# Altium schematic symbol library SIM7600.SchLib: 5 symbols
Pins are listed as number, name and electrical type; pins without a type are passive.

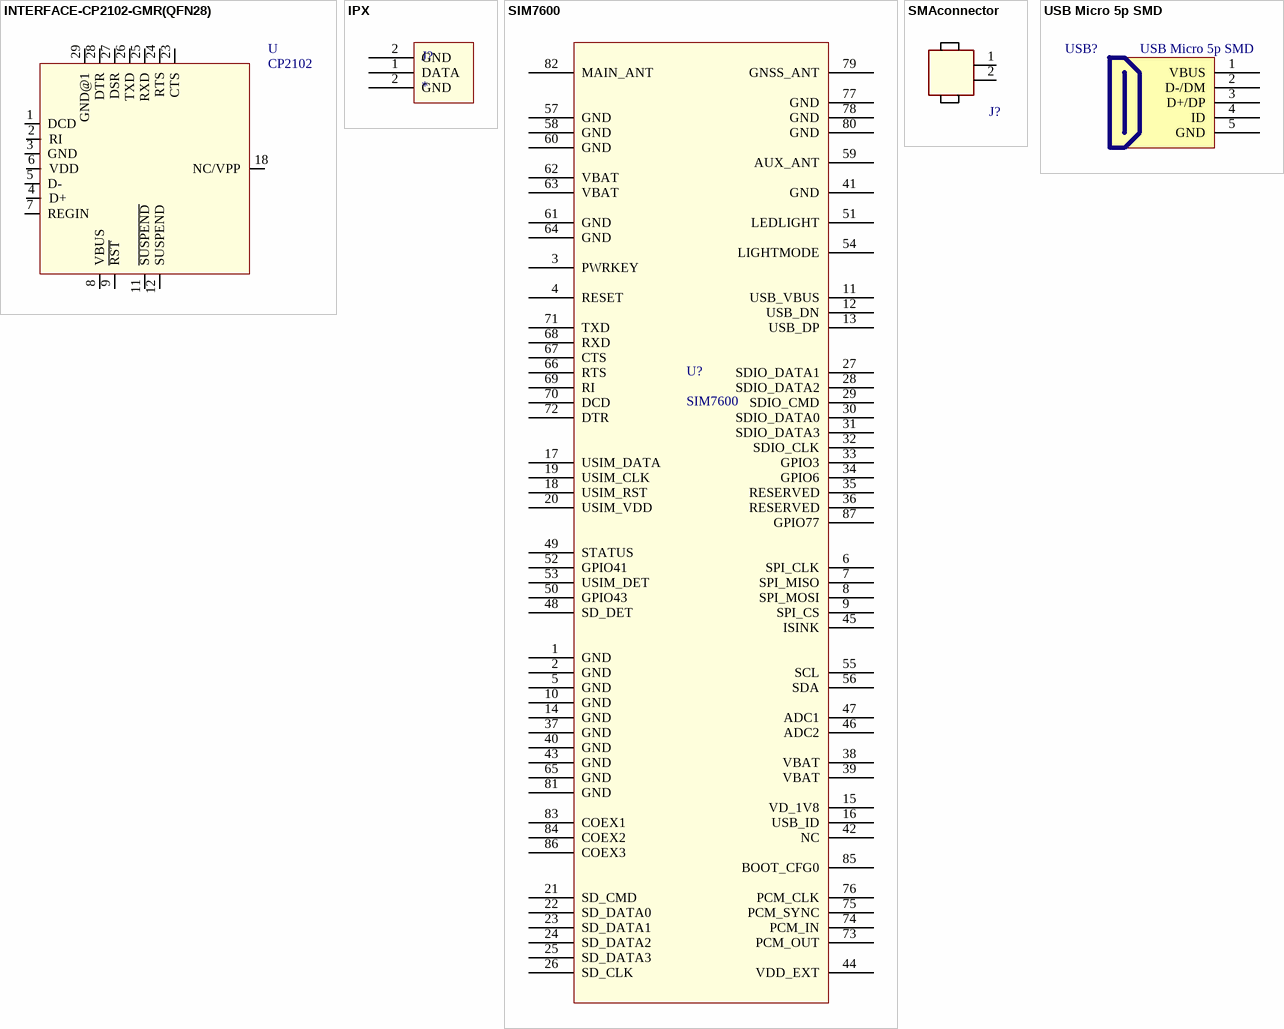
[diagram p0: symbols INTERFACE-CP2102-GMR(QFN28) to USB Micro 5p SMD]

## INTERFACE-CP2102-GMR(QFN28)
designator U, comment CP2102
USB Bridge, USB to UART USB 2.0 UART Interface 28-QFN _5x5_; MP: CP2102-GMR; MF: Silicon; SnapEDA_Link: https://www.snapeda.com/parts/CP2102-GMR/Silicon%20Labs/view-part/570818/?ref=snap; Price: None; Availability: Unavailable; Value: *; Package: VFQFN-28 Vishay Siliconix
footprint QFN28G_0.5-5X5MM
pins: 1 DCD (io), 2 RI (io), 3 GND (io), 4 D+ (io), 5 D- (io), 6 VDD (io), 7 REGIN (io), 8 VBUS (io), 9 ~{RST} (io), 11 ~{SUSPEND} (io), 12 SUSPEND (io), 18 NC/VPP (io), 23 CTS (io), 24 RTS (io), 25 RXD (io), 26 TXD (io), 27 DSR (io), 28 DTR (io), 29 GND@1 (io)

## IPX
designator J?
footprint *SAMTEC_SMA-J-P-H-RA-TH1
pins: 1 DATA, 2 GND, 2 GND

## SIM7600
designator U?
footprint IC_SIM7600E-H
pins: 1 GND, 2 GND, 3 PWRKEY, 4 RESET, 5 GND, 6 SPI_CLK, 7 SPI_MISO, 8 SPI_MOSI, 9 SPI_CS, 10 GND, 11 USB_VBUS, 12 USB_DN, 13 USB_DP, 14 GND, 15 VD_1V8, 16 USB_ID, 17 USIM_DATA, 18 USIM_RST, 19 USIM_CLK, 20 USIM_VDD, 21 SD_CMD, 22 SD_DATA0, 23 SD_DATA1, 24 SD_DATA2, 25 SD_DATA3, 26 SD_CLK, 27 SDIO_DATA1, 28 SDIO_DATA2, 29 SDIO_CMD, 30 SDIO_DATA0, 31 SDIO_DATA3, 32 SDIO_CLK, 33 GPIO3, 34 GPIO6, 35 RESERVED, 36 RESERVED, 37 GND, 38 VBAT, 39 VBAT, 40 GND, 41 GND, 42 NC, 43 GND, 44 VDD_EXT, 45 ISINK, 46 ADC2, 47 ADC1, 48 SD_DET, 49 STATUS, 50 GPIO43, 51 LEDLIGHT, 52 GPIO41, 53 USIM_DET, 54 LIGHTMODE, 55 SCL, 56 SDA, 57 GND, 58 GND, 59 AUX_ANT, 60 GND, 61 GND, 62 VBAT, 63 VBAT, 64 GND, 65 GND, 66 RTS, 67 CTS, 68 RXD, 69 RI, 70 DCD, 71 TXD, 72 DTR, 73 PCM_OUT, 74 PCM_IN, 75 PCM_SYNC, 76 PCM_CLK, 77 GND, 78 GND, 79 GNSS_ANT, 80 GND, 81 GND, 82 MAIN_ANT, 83 COEX1, 84 COEX2, 85 BOOT_CFG0, 86 COEX3, 87 GPIO77

## SMAconnector
designator J?, comment SMA  (value not drawn)
SMA antenna connector; Local Part Number: SMA-RAM-15; Local link: http://www.tme.vn/Product.aspx?id=1087#page=pro_info
footprint *SAMTEC_SMA-J-P-H-RA-TH1
pins: 1, 2

## USB Micro 5p SMD
designator USB?
USB Type B; Ten: MicroUSB MK5P SMD; Ma_Hang: MH001020
footprint USB Micro 5p SMD
footprint USB Micro 5P SMD
pins: 1 VBUS, 2 D-/DM, 3 D+/DP, 4 ID, 5 GND